# Altium schematic symbol library SCH - POWER - LINEAR VREG - AD ADP7156 SOIC.SchLib: 1 symbol
Pins are listed as number, name and electrical type; pins without a type are passive.

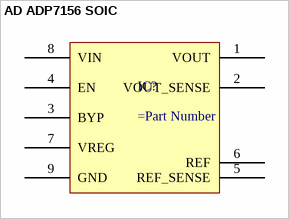
[diagram p0: symbol AD ADP7156 SOIC]

## AD ADP7156 SOIC
designator IC?
pins: 1 VOUT, 2 VOUT_SENSE, 3 BYP, 4 EN, 5 REF_SENSE, 6 REF, 7 VREG, 8 VIN, 9 GND